# Altium footprint library YMC15S-PCB.PcbLib: 1 footprints
Each footprint in its own frame and in the unit in brackets; x right, y up, seen from the top. Pads: shape width x height; smd on the part's side, far side on the other; paste and mask are expansions set on the pad; w line width, h text height; cw(c..) or ccw(c..) is an arc to the next point about the centre after c.
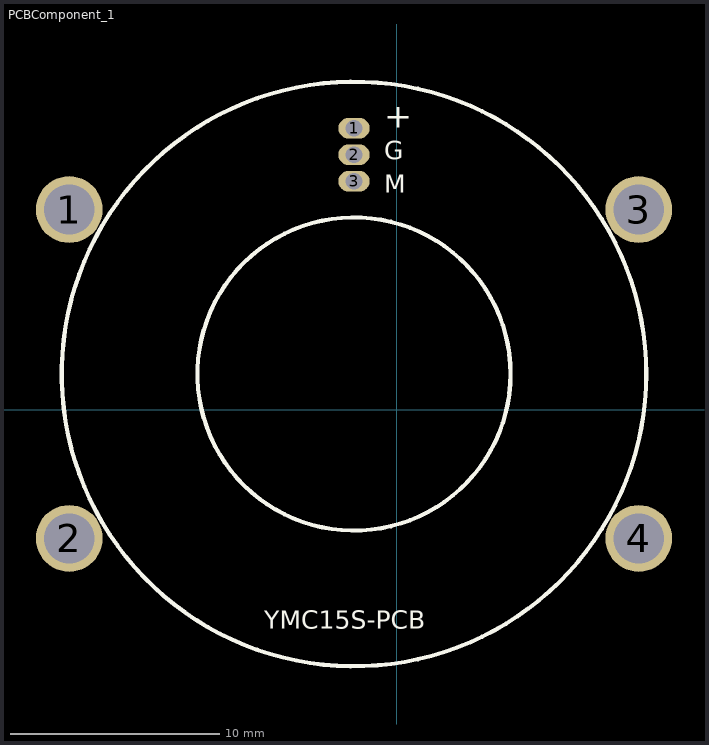
[diagram p0: the footprint, top view; thin cyan lines are the x and y axes]

## PCBComponent_1 [mm]
pads (7):
  round 3.2 hole 2.4: 1(-15.681,9.581) 2(-15.681,-6.169) 3(11.599,9.581) 4(11.599,-6.169)
  oval 1.5x1 hole 0.8: 1(-2.041,13.476) 2(-2.041,12.206) 3(-2.041,10.936)
Top Overlay:
  circle w0.2: c-2.041,1.706 r14
  circle w0.2: c-2.041,1.706 r7.5
  text "YMC15S-PCB" at -6.35,-10.795 h1.5
  text "M" at -0.591,10.106 h1.5
  text "+" at -0.591,13.106 h2
  text "G" at -0.591,11.706 h1.5